# Altium schematic symbol library WE-PMI.SchLib: 30 symbols
Pins are listed as number, name and electrical type; pins without a type are passive.

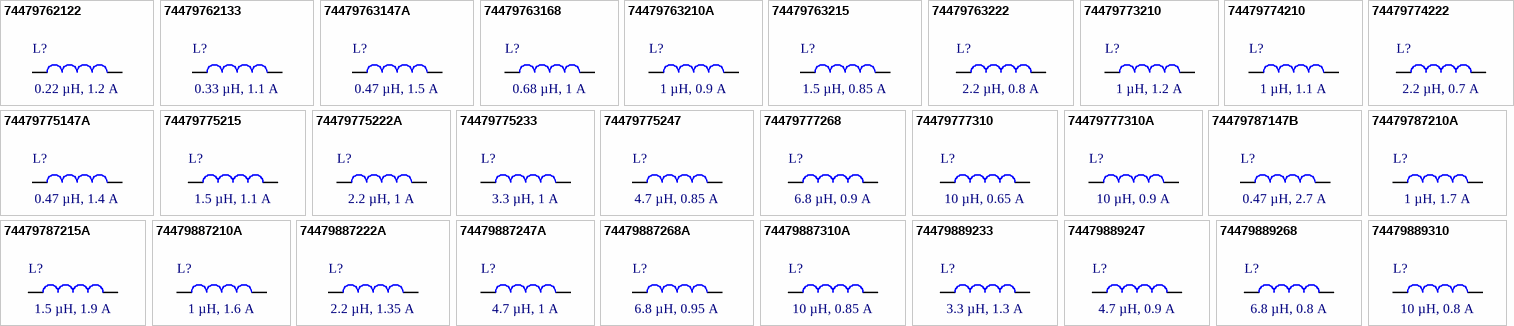
[diagram p0: symbols 74479762122 to 74479889310]

## 74479762122
designator L?, comment 0.22 µH, 1.2 A
WE-PMI SMT Power Multilayer Inductor, size 0603, 0.22 µH, 1.2 A, 150 mΩ; Manufacturer Part Number: 74479762122; Manufacturer: Wurth Elektronik; Case/Size Code: 0603; DC Resistance: 150 mΩ; Inductance: 0.22 µH; Inductance Tolerance: 20%; Q Factor: 7; Rated Current: 1.2 A; Saturation Current: 1.3 A; Self Resonant Frequency: 250 MHz; Type: Low Profile; Category: Power Inductors; Match Code: WE-PMI; ComponentLink1Description: Website Link; ComponentLink1URL: https://www.we-online.com/redexpert/article/74479762122?ad; ComponentLink2Description: Datasheet Link; ComponentLink2URL: https://www.we-online.com/redexpert/spec/74479762122?ad; Mount: Surface Mount; Min Operating Temperature: -40 °C; Max Operating Temperature: 125 °C; Packaging: Tape and Reel; Length: 1.6 mm; Width: 0.8 mm; Height: 0.5 mm
footprint WE-PMI_0603_L1.6W0.8H0.5
simulation model 0603_74479762122_0.22u
pins: 1, 2

## 74479762133
designator L?, comment 0.33 µH, 1.1 A
WE-PMI SMT Power Multilayer Inductor, size 0603, 0.33 µH, 1.1 A, 200 mΩ; Manufacturer Part Number: 74479762133; Manufacturer: Wurth Elektronik; Case/Size Code: 0603; DC Resistance: 200 mΩ; Inductance: 0.33 µH; Inductance Tolerance: 20%; Q Factor: 7; Rated Current: 1.1 A; Saturation Current: 1.2 A; Self Resonant Frequency: 200 MHz; Type: Low Profile; Category: Power Inductors; Match Code: WE-PMI; ComponentLink1Description: Website Link; ComponentLink1URL: https://www.we-online.com/redexpert/article/74479762133?ad; ComponentLink2Description: Datasheet Link; ComponentLink2URL: https://www.we-online.com/redexpert/spec/74479762133?ad; Mount: Surface Mount; Min Operating Temperature: -40 °C; Max Operating Temperature: 125 °C; Packaging: Tape and Reel; Length: 1.6 mm; Width: 0.8 mm; Height: 0.5 mm
footprint WE-PMI_0603_L1.6W0.8H0.5
simulation model 0603_74479762133_0.33u
pins: 1, 2

## 74479763147A
designator L?, comment 0.47 µH, 1.5 A
WE-PMI SMT Power Multilayer Inductor, size 0603, 0.47 µH, 1.5 A, 112.5 mΩ; Manufacturer Part Number: 74479763147A; Manufacturer: Wurth Elektronik; Case/Size Code: 0603; Inductance: 0.47 µH; Inductance Tolerance: 20%; Q Factor: 10; Rated Current: 1.5 A; Self Resonant Frequency: 190 MHz; Type: Low RDC; Category: Power Inductors; Match Code: WE-PMI; ComponentLink1Description: Website Link; ComponentLink1URL: https://www.we-online.com/redexpert/article/74479763147A?ad; ComponentLink2Description: Datasheet Link; ComponentLink2URL: https://www.we-online.com/redexpert/spec/74479763147A?ad; Mount: Surface Mount; Min Operating Temperature: -40 °C; Max Operating Temperature: 125 °C; Packaging: Tape and Reel; Length: 1.6 mm; Width: 0.8 mm; Height: 0.8 mm; DC Resistance: 112.5 mΩ; Saturation Current: 1.5 A
footprint WE-PMI_0603_L1.6W0.8H0.8
simulation model 0603_74479763147A_0.47u
pins: 1, 2

## 74479763168
designator L?, comment 0.68 µH, 1 A
WE-PMI SMT Power Multilayer Inductor, size 0603, 0.68 µH, 1 A, 225 mΩ; Manufacturer Part Number: 74479763168; Manufacturer: Wurth Elektronik; Case/Size Code: 0603; DC Resistance: 225 mΩ; Inductance: 0.68 µH; Inductance Tolerance: 20%; Q Factor: 10; Rated Current: 1 A; Saturation Current: 0.95 A; Self Resonant Frequency: 150 MHz; Type: Low RDC; Category: Power Inductors; Match Code: WE-PMI; ComponentLink1Description: Website Link; ComponentLink1URL: https://www.we-online.com/redexpert/article/74479763168?ad; ComponentLink2Description: Datasheet Link; ComponentLink2URL: https://www.we-online.com/redexpert/spec/74479763168?ad; Mount: Surface Mount; Min Operating Temperature: -40 °C; Max Operating Temperature: 125 °C; Packaging: Tape and Reel; Length: 1.6 mm; Width: 0.8 mm; Height: 0.8 mm
footprint WE-PMI_0603_L1.6W0.8H0.8
simulation model 0603_74479763168_0.68u
pins: 1, 2

## 74479763210A
designator L?, comment 1 µH, 0.9 A
WE-PMI SMT Power Multilayer Inductor, size 0603, 1 µH, 0.9 A, 250 mΩ; Manufacturer Part Number: 74479763210A; Manufacturer: Wurth Elektronik; Case/Size Code: 0603; DC Resistance: 250 mΩ; Inductance: 1 µH; Inductance Tolerance: 20%; Q Factor: 12; Rated Current: 0.9 A; Saturation Current: 0.65 A; Self Resonant Frequency: 120 MHz; Type: Low RDC; Category: Power Inductors; Match Code: WE-PMI; ComponentLink1Description: Website Link; ComponentLink1URL: https://www.we-online.com/redexpert/article/74479763210A?ad; ComponentLink2Description: Datasheet Link; ComponentLink2URL: https://www.we-online.com/redexpert/spec/74479763210A?ad; Mount: Surface Mount; Min Operating Temperature: -40 °C; Max Operating Temperature: 125 °C; Packaging: Tape and Reel; Length: 1.6 mm; Width: 0.8 mm; Height: 0.8 mm
footprint WE-PMI_0603_L1.6W0.8H0.8
simulation model 0603_74479763210A_1u
pins: 1, 2

## 74479763215
designator L?, comment 1.5 µH, 0.85 A
WE-PMI SMT Power Multilayer Inductor, size 0603, 1.5 µH, 0.85 A, 287.5 mΩ; Manufacturer Part Number: 74479763215; Manufacturer: Wurth Elektronik; Case/Size Code: 0603; Inductance: 1.5 µH; Inductance Tolerance: 20%; Q Factor: 12; Rated Current: 0.85 A; Saturation Current: 0.5 A; Self Resonant Frequency: 100 MHz; Type: Low RDC; Category: Power Inductors; Match Code: WE-PMI; ComponentLink1Description: Website Link; ComponentLink1URL: https://www.we-online.com/redexpert/article/74479763215?ad; ComponentLink2Description: Datasheet Link; ComponentLink2URL: https://www.we-online.com/redexpert/spec/74479763215?ad; Mount: Surface Mount; Min Operating Temperature: -40 °C; Max Operating Temperature: 125 °C; Packaging: Tape and Reel; Length: 1.6 mm; Width: 0.8 mm; Height: 0.8 mm; DC Resistance: 287.5 mΩ
footprint WE-PMI_0603_L1.6W0.8H0.8
simulation model 0603_74479763215_1.5u
pins: 1, 2

## 74479763222
designator L?, comment 2.2 µH, 0.8 A
WE-PMI SMT Power Multilayer Inductor, size 0603, 2.2 µH, 0.8 A, 375 mΩ; Manufacturer Part Number: 74479763222; Manufacturer: Wurth Elektronik; Case/Size Code: 0603; DC Resistance: 375 mΩ; Inductance: 2.2 µH; Inductance Tolerance: 20%; Q Factor: 15; Rated Current: 0.8 A; Saturation Current: 0.28 A; Self Resonant Frequency: 80 MHz; Type: Low RDC; Category: Power Inductors; Match Code: WE-PMI; ComponentLink1Description: Website Link; ComponentLink1URL: https://www.we-online.com/redexpert/article/74479763222?ad; ComponentLink2Description: Datasheet Link; ComponentLink2URL: https://www.we-online.com/redexpert/spec/74479763222?ad; Mount: Surface Mount; Min Operating Temperature: -40 °C; Max Operating Temperature: 125 °C; Packaging: Tape and Reel; Length: 1.6 mm; Width: 0.8 mm; Height: 0.8 mm
footprint WE-PMI_0603_L1.6W0.8H0.8
simulation model 0603_74479763222_2.2u
pins: 1, 2

## 74479773210
designator L?, comment 1 µH, 1.2 A
WE-PMI SMT Power Multilayer Inductor, size 0805, 1 µH, 1.2 A, 225 mΩ; Manufacturer Part Number: 74479773210; Manufacturer: Wurth Elektronik; Case/Size Code: 0805; DC Resistance: 225 mΩ; Inductance: 1 µH; Inductance Tolerance: 20%; Q Factor: 14; Rated Current: 1.2 A; Saturation Current: 0.8 A; Self Resonant Frequency: 90 MHz; Type: Low Profile; Category: Power Inductors; Match Code: WE-PMI; ComponentLink1Description: Website Link; ComponentLink1URL: https://www.we-online.com/redexpert/article/74479773210?ad; ComponentLink2Description: Datasheet Link; ComponentLink2URL: https://www.we-online.com/redexpert/spec/74479773210?ad; Mount: Surface Mount; Min Operating Temperature: -40 °C; Max Operating Temperature: 125 °C; Packaging: Tape and Reel; Length: 2 mm; Width: 1.2 mm; Height: 0.5 mm
footprint WE-PMI_0805_L2W1.2H0.5
simulation model 0805_74479773210_1u
pins: 1, 2

## 74479774210
designator L?, comment 1 µH, 1.1 A
WE-PMI SMT Power Multilayer Inductor, size 0805, 1 µH, 1.1 A, 237.5 mΩ; Manufacturer Part Number: 74479774210; Manufacturer: Wurth Elektronik; Case/Size Code: 0805; Inductance: 1 µH; Inductance Tolerance: 20%; Q Factor: 12; Rated Current: 1.1 A; Saturation Current: 0.5 A; Self Resonant Frequency: 100 MHz; Type: Low Profile; Category: Power Inductors; Match Code: WE-PMI; ComponentLink1Description: Website Link; ComponentLink1URL: https://www.we-online.com/redexpert/article/74479774210?ad; ComponentLink2Description: Datasheet Link; ComponentLink2URL: https://www.we-online.com/redexpert/spec/74479774210?ad; Mount: Surface Mount; Min Operating Temperature: -40 °C; Max Operating Temperature: 125 °C; Packaging: Tape and Reel; Length: 2 mm; Width: 1.2 mm; Height: 0.5 mm; DC Resistance: 237.5 mΩ
footprint WE-PMI_0805_L2W1.2H0.5
simulation model 0805_74479774210_1u
pins: 1, 2

## 74479774222
designator L?, comment 2.2 µH, 0.7 A
WE-PMI SMT Power Multilayer Inductor, size 0805, 2.2 µH, 0.7 A, 425 mΩ; Manufacturer Part Number: 74479774222; Manufacturer: Wurth Elektronik; Case/Size Code: 0805; DC Resistance: 425 mΩ; Inductance: 2.2 µH; Inductance Tolerance: 20%; Q Factor: 15; Rated Current: 0.7 A; Saturation Current: 0.25 A; Self Resonant Frequency: 40 MHz; Type: Low Profile; Category: Power Inductors; Match Code: WE-PMI; ComponentLink1Description: Website Link; ComponentLink1URL: https://www.we-online.com/redexpert/article/74479774222?ad; ComponentLink2Description: Datasheet Link; ComponentLink2URL: https://www.we-online.com/redexpert/spec/74479774222?ad; Mount: Surface Mount; Min Operating Temperature: -40 °C; Max Operating Temperature: 125 °C; Packaging: Tape and Reel; Length: 2 mm; Width: 1.2 mm; Height: 0.5 mm
footprint WE-PMI_0805_L2W1.2H0.5
simulation model 0805_74479774222_2.2u
pins: 1, 2

## 74479775147A
designator L?, comment 0.47 µH, 1.4 A
WE-PMI SMT Power Multilayer Inductor, size 0805, 0.47 µH, 1.4 A, 125 mΩ; Manufacturer Part Number: 74479775147A; Manufacturer: Wurth Elektronik; Case/Size Code: 0805; DC Resistance: 125 mΩ; Inductance: 0.47 µH; Inductance Tolerance: 20%; Q Factor: 10; Rated Current: 1.4 A; Saturation Current: 1 A; Self Resonant Frequency: 130 MHz; Type: Low RDC; Category: Power Inductors; Match Code: WE-PMI; ComponentLink1Description: Website Link; ComponentLink1URL: https://www.we-online.com/redexpert/article/74479775147A?ad; ComponentLink2Description: Datasheet Link; ComponentLink2URL: https://www.we-online.com/redexpert/spec/74479775147A?ad; Mount: Surface Mount; Min Operating Temperature: -40 °C; Max Operating Temperature: 125 °C; Packaging: Tape and Reel; Length: 2 mm; Width: 1.2 mm; Height: 1 mm
footprint WE-PMI_0805_L2W1.2H1
simulation model 0805_74479775147A_0.47u
pins: 1, 2

## 74479775215
designator L?, comment 1.5 µH, 1.1 A
WE-PMI SMT Power Multilayer Inductor, size 0805, 1.5 µH, 1.1 A, 200 mΩ; Manufacturer Part Number: 74479775215; Manufacturer: Wurth Elektronik; Case/Size Code: 0805; DC Resistance: 200 mΩ; Inductance: 1.5 µH; Inductance Tolerance: 20%; Q Factor: 20; Rated Current: 1.1 A; Saturation Current: 0.8 A; Self Resonant Frequency: 70 MHz; Type: Low RDC; Category: Power Inductors; Match Code: WE-PMI; ComponentLink1Description: Website Link; ComponentLink1URL: https://www.we-online.com/redexpert/article/74479775215?ad; ComponentLink2Description: Datasheet Link; ComponentLink2URL: https://www.we-online.com/redexpert/spec/74479775215?ad; Mount: Surface Mount; Min Operating Temperature: -40 °C; Max Operating Temperature: 125 °C; Packaging: Tape and Reel; Length: 2 mm; Width: 1.2 mm; Height: 1 mm
footprint WE-PMI_0805_L2W1.2H1
simulation model 0805_74479775215_1.5u
pins: 1, 2

## 74479775222A
designator L?, comment 2.2 µH, 1 A
WE-PMI SMT Power Multilayer Inductor, size 0805, 2.2 µH, 1 A, 250 mΩ; Manufacturer Part Number: 74479775222A; Manufacturer: Wurth Elektronik; Case/Size Code: 0805; DC Resistance: 250 mΩ; Inductance: 2.2 µH; Inductance Tolerance: 20%; Q Factor: 23; Rated Current: 1 A; Saturation Current: 0.7 A; Self Resonant Frequency: 50 MHz; Type: Low RDC; Category: Power Inductors; Match Code: WE-PMI; ComponentLink1Description: Website Link; ComponentLink1URL: https://www.we-online.com/redexpert/article/74479775222A?ad; ComponentLink2Description: Datasheet Link; ComponentLink2URL: https://www.we-online.com/redexpert/spec/74479775222A?ad; Mount: Surface Mount; Min Operating Temperature: -40 °C; Max Operating Temperature: 125 °C; Packaging: Tape and Reel; Length: 2 mm; Width: 1.2 mm; Height: 1 mm
footprint WE-PMI_0805_L2W1.2H1
simulation model 0805_74479775222A_2.2u
pins: 1, 2

## 74479775233
designator L?, comment 3.3 µH, 1 A
WE-PMI SMT Power Multilayer Inductor, size 0805, 3.3 µH, 1 A, 250 mΩ; Manufacturer Part Number: 74479775233; Manufacturer: Wurth Elektronik; Case/Size Code: 0805; DC Resistance: 250 mΩ; Inductance: 3.3 µH; Inductance Tolerance: 20%; Q Factor: 25; Rated Current: 1 A; Saturation Current: 0.28 A; Self Resonant Frequency: 30 MHz; Type: Low RDC; Category: Power Inductors; Match Code: WE-PMI; ComponentLink1Description: Website Link; ComponentLink1URL: https://www.we-online.com/redexpert/article/74479775233?ad; ComponentLink2Description: Datasheet Link; ComponentLink2URL: https://www.we-online.com/redexpert/spec/74479775233?ad; Mount: Surface Mount; Min Operating Temperature: -40 °C; Max Operating Temperature: 125 °C; Packaging: Tape and Reel; Length: 2 mm; Width: 1.2 mm; Height: 1 mm
footprint WE-PMI_0805_L2W1.2H1
simulation model 0805_74479775233_3.3u
pins: 1, 2

## 74479775247
designator L?, comment 4.7 µH, 0.85 A
WE-PMI SMT Power Multilayer Inductor, size 0805, 4.7 µH, 0.85 A, 312.5 mΩ; Manufacturer Part Number: 74479775247; Manufacturer: Wurth Elektronik; Case/Size Code: 0805; Inductance: 4.7 µH; Inductance Tolerance: 20%; Q Factor: 25; Rated Current: 0.85 A; Saturation Current: 0.25 A; Self Resonant Frequency: 30 MHz; Type: Low RDC; Category: Power Inductors; Match Code: WE-PMI; ComponentLink1Description: Website Link; ComponentLink1URL: https://www.we-online.com/redexpert/article/74479775247?ad; ComponentLink2Description: Datasheet Link; ComponentLink2URL: https://www.we-online.com/redexpert/spec/74479775247?ad; Mount: Surface Mount; Min Operating Temperature: -40 °C; Max Operating Temperature: 125 °C; Packaging: Tape and Reel; Length: 2 mm; Width: 1.2 mm; Height: 1 mm; DC Resistance: 312.5 mΩ
footprint WE-PMI_0805_L2W1.2H1
simulation model 0805_74479775247_4.7u
pins: 1, 2

## 74479777268
designator L?, comment 6.8 µH, 0.9 A
WE-PMI SMT Power Multilayer Inductor, size 0805, 6.8 µH, 0.9 A, 375 mΩ; Manufacturer Part Number: 74479777268; Manufacturer: Wurth Elektronik; Case/Size Code: 0805; DC Resistance: 375 mΩ; Inductance: 6.8 µH; Inductance Tolerance: 20%; Q Factor: 17; Rated Current: 0.9 A; Saturation Current: 0.2 A; Self Resonant Frequency: 40 MHz; Type: Low RDC; Category: Power Inductors; Match Code: WE-PMI; ComponentLink1Description: Website Link; ComponentLink1URL: https://www.we-online.com/redexpert/article/74479777268?ad; ComponentLink2Description: Datasheet Link; ComponentLink2URL: https://www.we-online.com/redexpert/spec/74479777268?ad; Mount: Surface Mount; Min Operating Temperature: -40 °C; Max Operating Temperature: 125 °C; Packaging: Tape and Reel; Length: 2 mm; Width: 1.2 mm; Height: 1.25 mm
footprint WE-PMI_0805_L2W1.2H1.25
simulation model 0805_74479777268_6.8u
pins: 1, 2

## 74479777310
designator L?, comment 10 µH, 0.65 A
WE-PMI SMT Power Multilayer Inductor, size 0805, 10 µH, 0.65 A, 625 mΩ; Manufacturer Part Number: 74479777310; Manufacturer: Wurth Elektronik; Case/Size Code: 0805; DC Resistance: 625 mΩ; Inductance: 10 µH; Inductance Tolerance: 20%; Q Factor: 35; Rated Current: 0.65 A; Saturation Current: 0.125 A; Self Resonant Frequency: 25 MHz; Type: Low RDC; Category: Power Inductors; Match Code: WE-PMI; ComponentLink1Description: Website Link; ComponentLink1URL: https://www.we-online.com/redexpert/article/74479777310?ad; ComponentLink2Description: Datasheet Link; ComponentLink2URL: https://www.we-online.com/redexpert/spec/74479777310?ad; Mount: Surface Mount; Min Operating Temperature: -40 °C; Max Operating Temperature: 125 °C; Packaging: Tape and Reel; Length: 2 mm; Width: 1.2 mm; Height: 1.25 mm
footprint WE-PMI_0805_L2W1.2H1.25
simulation model 0805_74479777310_10u
pins: 1, 2

## 74479777310A
designator L?, comment 10 µH, 0.9 A
WE-PMI SMT Power Multilayer Inductor, size 0805, 10 µH, 0.9 A, 375 mΩ; Manufacturer Part Number: 74479777310A; Manufacturer: Wurth Elektronik; Case/Size Code: 0805; DC Resistance: 375 mΩ; Inductance: 10 µH; Inductance Tolerance: 20%; Q Factor: 20; Rated Current: 0.9 A; Saturation Current: 0.12 A; Self Resonant Frequency: 35 MHz; Type: Low RDC; Category: Power Inductors; Match Code: WE-PMI; ComponentLink1Description: Website Link; ComponentLink1URL: https://www.we-online.com/redexpert/article/74479777310A?ad; ComponentLink2Description: Datasheet Link; ComponentLink2URL: https://www.we-online.com/redexpert/spec/74479777310A?ad; Mount: Surface Mount; Min Operating Temperature: -40 °C; Max Operating Temperature: 125 °C; Packaging: Tape and Reel; Length: 2 mm; Width: 1.2 mm; Height: 1.25 mm
footprint WE-PMI_0805_L2W1.2H1.25
simulation model 0805_74479777310A_10u
pins: 1, 2

## 74479787147B
designator L?, comment 0.47 µH, 2.7 A
WE-PMI SMT Power Multilayer Inductor, size 1008, 0.47 µH, 2.7 A, 50 mΩ; Manufacturer Part Number: 74479787147B; Manufacturer: Wurth Elektronik; Case/Size Code: 1008; DC Resistance: 50 mΩ; Inductance: 0.47 µH; Inductance Tolerance: 20%; Q Factor: 18; Rated Current: 2.7 A; Saturation Current: 0.95 A; Self Resonant Frequency: 105 MHz; Type: Low RDC; Category: Power Inductors; Match Code: WE-PMI; ComponentLink1Description: Website Link; ComponentLink1URL: https://www.we-online.com/redexpert/article/74479787147B?ad; ComponentLink2Description: Datasheet Link; ComponentLink2URL: https://www.we-online.com/redexpert/spec/74479787147B?ad; Mount: Surface Mount; Min Operating Temperature: -40 °C; Max Operating Temperature: 125 °C; Packaging: Tape and Reel; Length: 2.5 mm; Width: 2 mm; Height: 1 mm
footprint WE-PMI_1008_L2.5W2H1
simulation model 1008_74479787147B_0.47u
pins: 1, 2

## 74479787210A
designator L?, comment 1 µH, 1.7 A
WE-PMI SMT Power Multilayer Inductor, size 1008, 1 µH, 1.7 A, 92.95 mΩ; Manufacturer Part Number: 74479787210A; Manufacturer: Wurth Elektronik; Case/Size Code: 1008; Inductance: 1 µH; Inductance Tolerance: 20%; Q Factor: 15; Rated Current: 1.7 A; Saturation Current: 1 A; Self Resonant Frequency: 90 MHz; Type: Low RDC; Category: Power Inductors; Match Code: WE-PMI; ComponentLink1Description: Website Link; ComponentLink1URL: https://www.we-online.com/redexpert/article/74479787210A?ad; ComponentLink2Description: Datasheet Link; ComponentLink2URL: https://www.we-online.com/redexpert/spec/74479787210A?ad; Mount: Surface Mount; Min Operating Temperature: -40 °C; Max Operating Temperature: 125 °C; Packaging: Tape and Reel; Length: 2.5 mm; Width: 2 mm; Height: 1 mm; DC Resistance: 92.95 mΩ
footprint WE-PMI_1008_L2.5W2H1
simulation model 1008LP_74479787210A_1u
pins: 1, 2

## 74479787215A
designator L?, comment 1.5 µH, 1.9 A
WE-PMI SMT Power Multilayer Inductor, size 1008, 1.5 µH, 1.9 A, 87.5 mΩ; Manufacturer Part Number: 74479787215A; Manufacturer: Wurth Elektronik; Case/Size Code: 1008; DC Resistance: 87.5 mΩ; Inductance: 1.5 µH; Inductance Tolerance: 20%; Q Factor: 25; Rated Current: 1.9 A; Saturation Current: 1.1 A; Self Resonant Frequency: 65 MHz; Type: Low RDC; Category: Power Inductors; Match Code: WE-PMI; ComponentLink1Description: Website Link; ComponentLink1URL: https://www.we-online.com/redexpert/article/74479787215A?ad; ComponentLink2Description: Datasheet Link; ComponentLink2URL: https://www.we-online.com/redexpert/spec/74479787215A?ad; Mount: Surface Mount; Min Operating Temperature: -40 °C; Max Operating Temperature: 125 °C; Packaging: Tape and Reel; Length: 2.5 mm; Width: 2 mm; Height: 1 mm
footprint WE-PMI_1008_L2.5W2H1
simulation model 1008_74479787215A_1.5u
pins: 1, 2

## 74479887210A
designator L?, comment 1 µH, 1.6 A
WE-PMI SMT Power Multilayer Inductor, size 1008, 1 µH, 1.6 A, 75 mΩ; Manufacturer Part Number: 74479887210A; Manufacturer: Wurth Elektronik; Case/Size Code: 1008; DC Resistance: 75 mΩ; Inductance: 1 µH; Inductance Tolerance: 20%; Q Factor: 15; Rated Current: 1.6 A; Saturation Current: 1 A; Self Resonant Frequency: 90 MHz; Type: High Saturation Current; Category: Power Inductors; Match Code: WE-PMI; ComponentLink1Description: Website Link; ComponentLink1URL: https://www.we-online.com/redexpert/article/74479887210A?ad; ComponentLink2Description: Datasheet Link; ComponentLink2URL: https://www.we-online.com/redexpert/spec/74479887210A?ad; Mount: Surface Mount; Min Operating Temperature: -40 °C; Max Operating Temperature: 125 °C; Packaging: Tape and Reel; Length: 2.5 mm; Width: 2 mm; Height: 1 mm
footprint WE-PMI_1008_L2.5W2H1
pins: 1, 2

## 74479887222A
designator L?, comment 2.2 µH, 1.35 A
WE-PMI SMT Power Multilayer Inductor, size 1008, 2.2 µH, 1.35 A, 140 mΩ; Manufacturer Part Number: 74479887222A; Manufacturer: Wurth Elektronik; Case/Size Code: 1008; DC Resistance: 140 mΩ; Inductance: 2.2 µH; Inductance Tolerance: 20%; Q Factor: 20; Rated Current: 1.35 A; Saturation Current: 0.825 A; Self Resonant Frequency: 65 MHz; Type: High Saturation Current; Category: Power Inductors; Match Code: WE-PMI; ComponentLink1Description: Website Link; ComponentLink1URL: https://www.we-online.com/redexpert/article/74479887222A?ad; ComponentLink2Description: Datasheet Link; ComponentLink2URL: https://www.we-online.com/redexpert/spec/74479887222A?ad; Mount: Surface Mount; Min Operating Temperature: -40 °C; Max Operating Temperature: 125 °C; Packaging: Tape and Reel; Length: 2.5 mm; Width: 2 mm; Height: 1 mm
footprint WE-PMI_1008_L2.5W2H1
simulation model 1008LP_74479887222A_2.2u
pins: 1, 2

## 74479887247A
designator L?, comment 4.7 µH, 1 A
WE-PMI SMT Power Multilayer Inductor, size 1008, 4.7 µH, 1 A, 230 mΩ; Manufacturer Part Number: 74479887247A; Manufacturer: Wurth Elektronik; Case/Size Code: 1008; DC Resistance: 230 mΩ; Inductance: 4.7 µH; Inductance Tolerance: 20%; Q Factor: 23; Rated Current: 1 A; Saturation Current: 0.4 A; Self Resonant Frequency: 35 MHz; Type: High Saturation Current; Category: Power Inductors; Match Code: WE-PMI; ComponentLink1Description: Website Link; ComponentLink1URL: https://www.we-online.com/redexpert/article/74479887247A?ad; ComponentLink2Description: Datasheet Link; ComponentLink2URL: https://www.we-online.com/redexpert/spec/74479887247A?ad; Mount: Surface Mount; Min Operating Temperature: -40 °C; Max Operating Temperature: 125 °C; Packaging: Tape and Reel; Length: 2.5 mm; Width: 2 mm; Height: 1 mm
footprint WE-PMI_1008_L2.5W2H1
simulation model 1008LP_74479887247A_4.7u
pins: 1, 2

## 74479887268A
designator L?, comment 6.8 µH, 0.95 A
WE-PMI SMT Power Multilayer Inductor, size 1008, 6.8 µH, 0.95 A, 250 mΩ; Manufacturer Part Number: 74479887268A; Manufacturer: Wurth Elektronik; Case/Size Code: 1008; DC Resistance: 250 mΩ; Inductance: 6.8 µH; Inductance Tolerance: 20%; Q Factor: 25; Rated Current: 0.95 A; Saturation Current: 0.3 A; Self Resonant Frequency: 30 MHz; Type: High Saturation Current; Category: Power Inductors; Match Code: WE-PMI; ComponentLink1Description: Website Link; ComponentLink1URL: https://www.we-online.com/redexpert/article/74479887268A?ad; ComponentLink2Description: Datasheet Link; ComponentLink2URL: https://www.we-online.com/redexpert/spec/74479887268A?ad; Mount: Surface Mount; Min Operating Temperature: -40 °C; Max Operating Temperature: 125 °C; Packaging: Tape and Reel; Length: 2.5 mm; Width: 2 mm; Height: 1 mm
footprint WE-PMI_1008_L2.5W2H1
simulation model 1008LP_74479887268A_6.8u
pins: 1, 2

## 74479887310A
designator L?, comment 10 µH, 0.85 A
WE-PMI SMT Power Multilayer Inductor, size 1008, 10 µH, 0.85 A, 300 mΩ; Manufacturer Part Number: 74479887310A; Manufacturer: Wurth Elektronik; Case/Size Code: 1008; DC Resistance: 300 mΩ; Inductance: 10 µH; Inductance Tolerance: 20%; Q Factor: 27; Rated Current: 0.85 A; Saturation Current: 0.125 A; Self Resonant Frequency: 20 MHz; Type: High Saturation Current; Category: Power Inductors; Match Code: WE-PMI; ComponentLink1Description: Website Link; ComponentLink1URL: https://www.we-online.com/redexpert/article/74479887310A?ad; ComponentLink2Description: Datasheet Link; ComponentLink2URL: https://www.we-online.com/redexpert/spec/74479887310A?ad; Mount: Surface Mount; Min Operating Temperature: -40 °C; Max Operating Temperature: 125 °C; Packaging: Tape and Reel; Length: 2.5 mm; Width: 2 mm; Height: 1 mm
footprint WE-PMI_1008_L2.5W2H1
simulation model 1008LP_74479887310A_10u
pins: 1, 2

## 74479889233
designator L?, comment 3.3 µH, 1.3 A
WE-PMI SMT Power Multilayer Inductor, size 1008, 3.3 µH, 1.3 A, 312.5 mΩ; Manufacturer Part Number: 74479889233; Manufacturer: Wurth Elektronik; Case/Size Code: 1008; Inductance: 3.3 µH; Inductance Tolerance: 20%; Q Factor: 15; Rated Current: 1.3 A; Self Resonant Frequency: 50 MHz; Type: High Saturation Current; Category: Power Inductors; Match Code: WE-PMI; ComponentLink1Description: Website Link; ComponentLink1URL: https://www.we-online.com/redexpert/article/74479889233?ad; ComponentLink2Description: Datasheet Link; ComponentLink2URL: https://www.we-online.com/redexpert/spec/74479889233?ad; Mount: Surface Mount; Min Operating Temperature: -40 °C; Max Operating Temperature: 125 °C; Packaging: Tape and Reel; Length: 2.5 mm; Width: 2 mm; Height: 1.2 mm; DC Resistance: 312.5 mΩ; Saturation Current: 1.3 A
footprint WE-PMI_1008_L2.5W2H1.2
simulation model 1008_74479889233_3.3u
pins: 1, 2

## 74479889247
designator L?, comment 4.7 µH, 0.9 A
WE-PMI SMT Power Multilayer Inductor, size 1008, 4.7 µH, 0.9 A, 500 mΩ; Manufacturer Part Number: 74479889247; Manufacturer: Wurth Elektronik; Case/Size Code: 1008; DC Resistance: 500 mΩ; Inductance: 4.7 µH; Inductance Tolerance: 20%; Q Factor: 15; Rated Current: 0.9 A; Self Resonant Frequency: 35 MHz; Type: High Saturation Current; Category: Power Inductors; Match Code: WE-PMI; ComponentLink1Description: Website Link; ComponentLink1URL: https://www.we-online.com/redexpert/article/74479889247?ad; ComponentLink2Description: Datasheet Link; ComponentLink2URL: https://www.we-online.com/redexpert/spec/74479889247?ad; Mount: Surface Mount; Min Operating Temperature: -40 °C; Max Operating Temperature: 125 °C; Packaging: Tape and Reel; Length: 2.5 mm; Width: 2 mm; Height: 1.2 mm; Saturation Current: 0.9 A
footprint WE-PMI_1008_L2.5W2H1.2
simulation model 1008_74479889247_4.7u
pins: 1, 2

## 74479889268
designator L?, comment 6.8 µH, 0.8 A
WE-PMI SMT Power Multilayer Inductor, size 1008, 6.8 µH, 0.8 A, 625 mΩ; Manufacturer Part Number: 74479889268; Manufacturer: Wurth Elektronik; Case/Size Code: 1008; DC Resistance: 625 mΩ; Inductance: 6.8 µH; Inductance Tolerance: 20%; Q Factor: 15; Rated Current: 0.8 A; Saturation Current: 0.7 A; Self Resonant Frequency: 25 MHz; Type: High Saturation Current; Category: Power Inductors; Match Code: WE-PMI; ComponentLink1Description: Website Link; ComponentLink1URL: https://www.we-online.com/redexpert/article/74479889268?ad; ComponentLink2Description: Datasheet Link; ComponentLink2URL: https://www.we-online.com/redexpert/spec/74479889268?ad; Mount: Surface Mount; Min Operating Temperature: -40 °C; Max Operating Temperature: 125 °C; Packaging: Tape and Reel; Length: 2.5 mm; Width: 2 mm; Height: 1.2 mm
footprint WE-PMI_1008_L2.5W2H1.2
simulation model 1008_74479889268_6.8u
pins: 1, 2

## 74479889310
designator L?, comment 10 µH, 0.8 A
WE-PMI SMT Power Multilayer Inductor, size 1008, 10 µH, 0.8 A, 625 mΩ; Manufacturer Part Number: 74479889310; Manufacturer: Wurth Elektronik; Case/Size Code: 1008; DC Resistance: 625 mΩ; Inductance: 10 µH; Inductance Tolerance: 20%; Q Factor: 15; Rated Current: 0.8 A; Saturation Current: 0.5 A; Self Resonant Frequency: 20 MHz; Type: High Saturation Current; Category: Power Inductors; Match Code: WE-PMI; ComponentLink1Description: Website Link; ComponentLink1URL: https://www.we-online.com/redexpert/article/74479889310?ad; ComponentLink2Description: Datasheet Link; ComponentLink2URL: https://www.we-online.com/redexpert/spec/74479889310?ad; Mount: Surface Mount; Min Operating Temperature: -40 °C; Max Operating Temperature: 125 °C; Packaging: Tape and Reel; Length: 2.5 mm; Width: 2 mm; Height: 1.2 mm
footprint WE-PMI_1008_L2.5W2H1.2
simulation model 1008_74479889310_10u
pins: 1, 2